# Altium schematic symbol library LMZ30602RKGT.SchLib: 1 symbol
Pins are listed as number, name and electrical type; pins without a type are passive.

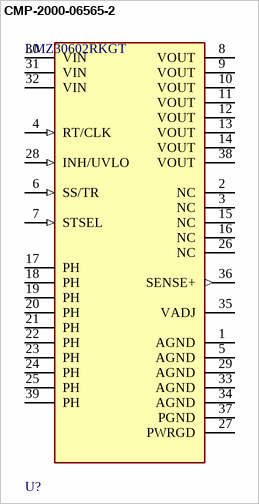
[diagram p0: symbol CMP-2000-06565-2]

## CMP-2000-06565-2
designator U?, comment LMZ30602RKGT
DC DC CONVERTER 0.8-3.6V 7W; Manufacturer: TI; Max Junction Temp: +125°C; Max Supply Voltage: 6V; Number Of Outputs: 1; Switching Topology: Buck; Output Type: AdjustableProgrammable; Output Current: 2A; Min Supply Voltage: 2.95V; Switching Frequency: 400-600kHz; Standoff Height: 0mm; Output Voltage: 0.8-3.6V; Temperature: -40°C to +85°C; Lead Free: Yes; Temperature Range Low: -40°C; Height: 2.9mm; RoHS: TRUE; Device Class L2: Power Management ICs; Device Class L3: Voltage Regulators - Switching; ComponentLink2URL: http://www.ti.com/lit/ds/symlink/lmz30602.pdf; Device Class L1: Integrated Circuits (ICs); Category: IC; Temperature Range High: +85°C; Automotive: No; Manufacturer Part Number: LMZ30602RKGT; Octopart: https://octopart.com/lmz30602rkgt-texas+instruments-30261670; ComponentLink2Description: Datasheet; Digikey Description: DC DC CONVERTER 0.8-3.6V 7W; Package: RKG0039A
footprint FP-RKG0039A-MFG
pins: 1 AGND (power), 2 NC, 3 NC, 4 RT/CLK (in), 5 AGND (power), 6 SS/TR (in), 7 STSEL (in), 8 VOUT, 9 VOUT, 10 VOUT, 11 VOUT, 12 VOUT, 13 VOUT, 14 VOUT, 15 NC, 16 NC, 17 PH, 18 PH, 19 PH, 20 PH, 21 PH, 22 PH, 23 PH, 24 PH, 25 PH, 26 NC, 27 PWRGD (power), 28 INH/UVLO (in), 29 AGND (power), 30 VIN (power), 31 VIN (power), 32 VIN (power), 33 AGND (power), 34 AGND (power), 35 VADJ (power), 36 SENSE+ (out), 37 PGND (power), 38 VOUT, 39 PH